# Altium footprint library 电源1.PcbLib: 21 footprints (part 2 of 2)
Each footprint in its own frame and in the unit in brackets; x right, y up, seen from the top. Pads: shape width x height; smd on the part's side, far side on the other; paste and mask are expansions set on the pad; w line width, h text height; cw(c..) or ccw(c..) is an arc to the next point about the centre after c.
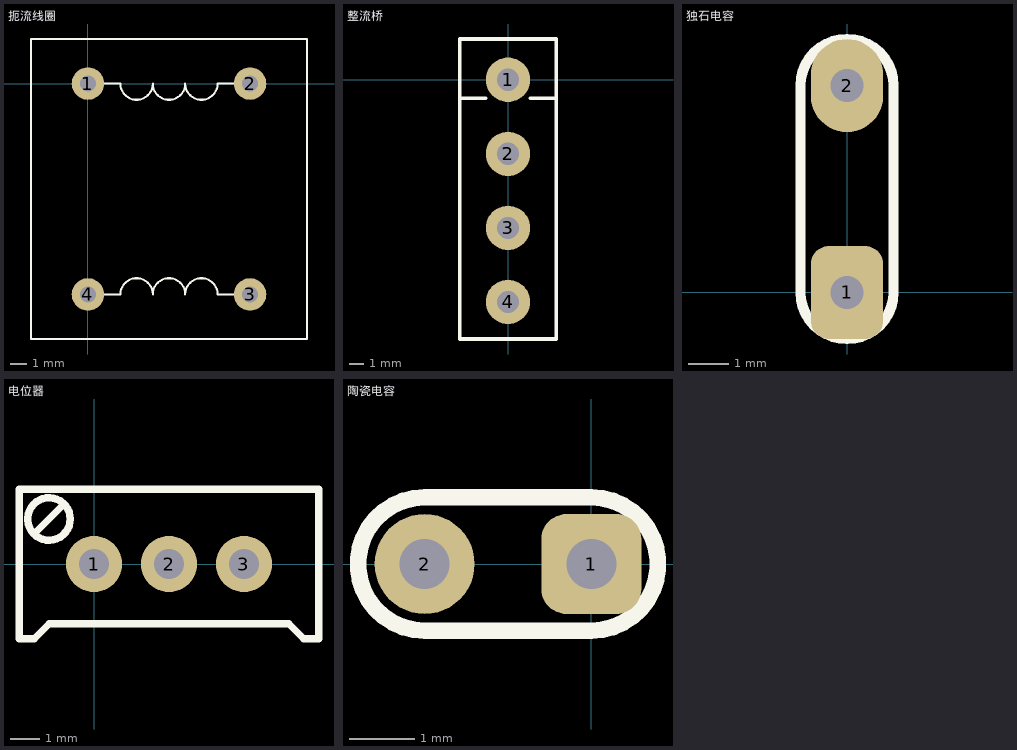
[diagram p1: the footprints below, top view; thin cyan lines are the x and y axes]

## 扼流线圈 [mm]
pads (4):
  round 2 hole 1: 1(0,0) 2(10,0) 3(10,-13) 4(0,-13)
Top Overlay:
  lines w0.127: 0,-13 2,-13 cw(c3,-13) 4,-13 cw(c5,-13) 6,-13 cw(c7,-13) 8,-13 10,-13 ; 0,0 2,0 ccw(c3,0) 4,0 ccw(c5,0) 6,0 ccw(c7,0) 8,0 10,0 ; -3.5,-15.75 -3.5,2.75 13.5,2.75 13.5,-15.75 -3.5,-15.75

## 整流桥 [mm]
pads (4):
  round 3 hole 1.5: 1(0,0) 2(0,-5) 3(0,-10) 4(0,-15)
Top Overlay:
  lines w0.254: -3.25,-1.25 -1.5,-1.25 ; 1.5,-1.25 3.25,-1.25 ; -3.25,-17.5 -3.25,-14 -3.25,2.75 3.25,2.75 3.25,-17.5 -3.25,-17.5

## 独石电容 [mil]
pads (2):
  rrect50% 70x90 hole 32: 1(0,0)
  oval 70x90 hole 32: 2(0,200)
Top Overlay:
  lines w10: -45,0 ccw(c0,0) 45,0 45,200 ccw(c0,200) -45,200 -45,0
3D body "User Library-6mm radial ceramic disc capacitor.STEP": height 334.65, standoff -988.96, extent -77,-18.11 72.61,218.11

## 电位器 [mil]
pads (3):
  round 75 hole 40: 1(0,0) 2(100,0) 3(200,0)
Top Overlay:
  circle w10: c-60,60 r28.28
  lines w10: -80,40 -40,80 ; -100,-100 -100,100 300,100 300,-100 280,-100 260,-80 -60,-80 -80,-100 -100,-100

## 陶瓷电容 [mil]
pads (2):
  rrect50% 60x60 hole 30: 1(0,0)
  round 60 hole 30: 2(-100,0)
Top Overlay:
  lines w10: -100,-40 cw(c-100,0) -100,40 0,40 cw(c0,0) 0,-40 -100,-40
3D body "User Library-Capacitor ceramico 0_2in pitch.STEP": height 216.53, standoff -131.14, extent -158,-49.43 58.56,49